# Altium schematic symbol library POT.SchLib: 1 symbol
Pins are listed as number, name and electrical type; pins without a type are passive.

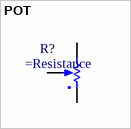
[diagram p0: symbol POT]

## POT
designator R?
pins: 1 BOT, 2 TAP, 3 TOP